# EAGLE library part AD783JRZ (library my)
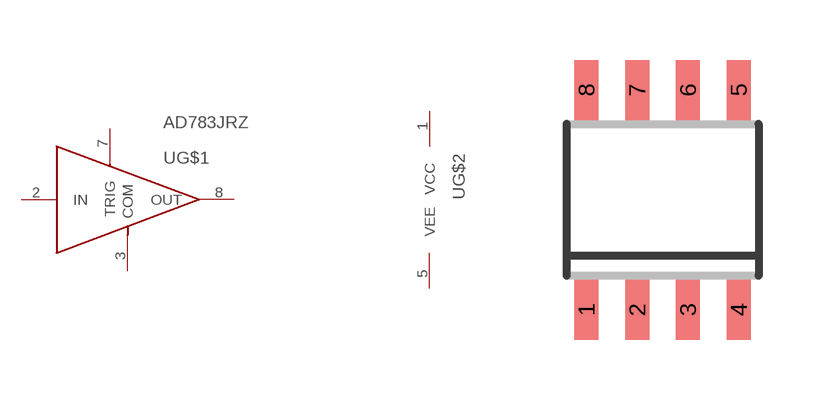
[diagram p0: symbol with the pads of SOIC8; footprint SOIC8]

Designator prefix -; gates G$1=SAMPLE_AND_HOLD G$2=VCC_VEE

## AD783JRZ  [SOIC8]
1  G$2:VCC
2  G$1:IN
3  G$1:COM
5  G$2:VEE
7  G$1:TRIG
8  G$1:OUT

## Footprint SOIC8 (pad centres in mm)
SOIC-8 CASE 751-07 Source: http://www.onsemi.com/pub/Collateral/MC34164-D.PDF D (R-PDSO-G8)PLATIC SMALL-OUTLINE PACKAGE Source: http://focus.ti.com/lit/ds/symlink/tlc27l2.pdf
smd 0.6 x 1.5: 1 -1.905,-2.75; 2 -0.635,-2.75; 3 0.635,-2.75; 4 1.905,-2.75; 5 1.905,2.75; 6 0.635,2.75; 7 -0.635,2.75; 8 -1.905,2.75